# Altium schematic symbol library WE-CBF.SchLib: 156 symbols (part 1 of 3)
Pins are listed as number, name and electrical type; pins without a type are passive.

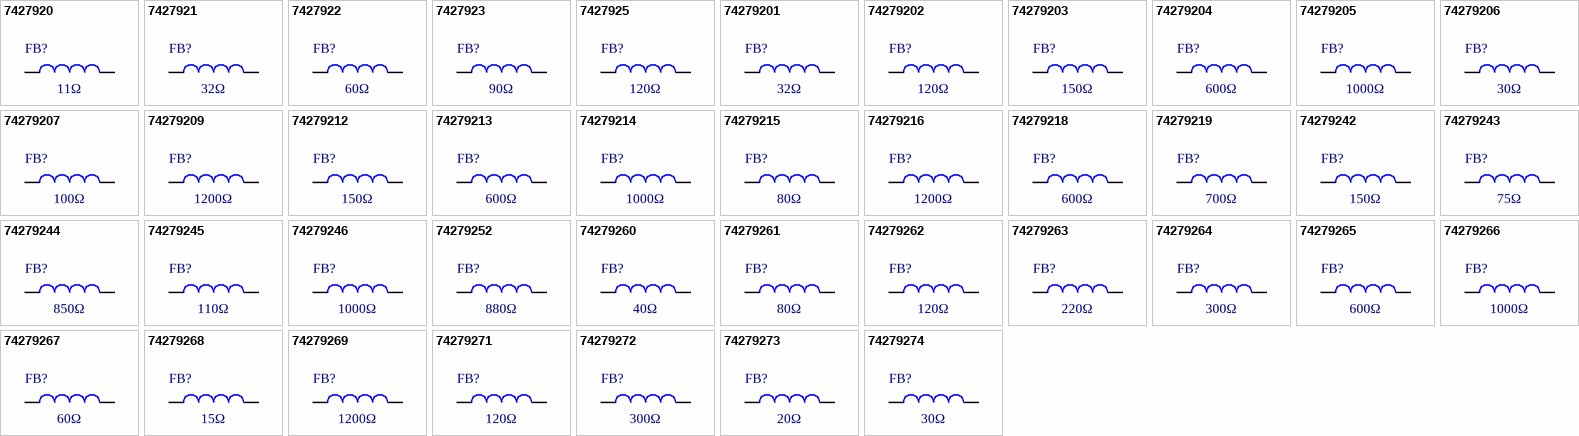
[diagram p0: symbols 7427920 to 74279274]

## 7427920
designator FB?, comment 11Ω
WE-CBF SMT EMI Suppression Ferrite Bead, size 0805, 11Ω, 9.6A; Manufacturer Part Number: 7427920; Manufacturer: Wurth Elektronik; Case/Size Code: 0805; DC Resistance Max: 0.15Ω; Impedance Max: 24Ω; Impedance Max Test Condition: 1000MHz; Type: High Speed; Category: Ferrites for PCB Assembly; Match Code: WE-CBF; ComponentLink1Description: Website Link; ComponentLink1URL: https://www.we-online.com/redexpert/article/7427920?ad; ComponentLink2Description: Datasheet Link; ComponentLink2URL: https://www.we-online.com/redexpert/spec/7427920?ad; Mount: Surface Mount; Min Operating Temperature: -55°C; Max Operating Temperature: 125°C; Packaging: Tape and Reel; Length: 2mm; Width: 1.2mm; Height: 0.9mm; Impedance @100MHz: 11Ω; Rated Current: 9.6A
footprint WE-CBF_0805_L2W1.2H0.9_HS_WB
simulation model 0805_7427920_11ohm
pins: 1, 2

## 7427921
designator FB?, comment 32Ω
WE-CBF SMT EMI Suppression Ferrite Bead, size 1206, 32Ω, 8.1A; Manufacturer Part Number: 7427921; Manufacturer: Wurth Elektronik; Case/Size Code: 1206; DC Resistance Max: 0.2Ω; Impedance Max: 70Ω; Impedance Max Test Condition: 1000MHz; Type: High Speed; Category: Ferrites for PCB Assembly; Match Code: WE-CBF; ComponentLink1Description: Website Link; ComponentLink1URL: https://www.we-online.com/redexpert/article/7427921?ad; ComponentLink2Description: Datasheet Link; ComponentLink2URL: https://www.we-online.com/redexpert/spec/7427921?ad; Mount: Surface Mount; Min Operating Temperature: -55°C; Max Operating Temperature: 125°C; Packaging: Tape and Reel; Length: 3.2mm; Width: 1.6mm; Height: 1.1mm; Impedance @100MHz: 32Ω; Rated Current: 8.1A
footprint WE-CBF_1206_L3.2W1.6H1.1_HS_WB
simulation model 1206_7427921_32ohm
pins: 1, 2

## 7427922
designator FB?, comment 60Ω
WE-CBF SMT EMI Suppression Ferrite Bead, size 1206, 60Ω, 5A; Manufacturer Part Number: 7427922; Manufacturer: Wurth Elektronik; Case/Size Code: 1206; DC Resistance Max: 0.2Ω; Impedance Max: 120Ω; Impedance Max Test Condition: 1000MHz; Type: High Speed; Category: Ferrites for PCB Assembly; Match Code: WE-CBF; ComponentLink1Description: Website Link; ComponentLink1URL: https://www.we-online.com/redexpert/article/7427922?ad; ComponentLink2Description: Datasheet Link; ComponentLink2URL: https://www.we-online.com/redexpert/spec/7427922?ad; Mount: Surface Mount; Min Operating Temperature: -55°C; Max Operating Temperature: 125°C; Packaging: Tape and Reel; Length: 3.2mm; Width: 1.6mm; Height: 1.1mm; Impedance @100MHz: 60Ω; Rated Current: 5A
footprint WE-CBF_1206_L3.2W1.6H1.1_HS_WB
simulation model 1206_7427922_60ohm
pins: 1, 2

## 7427923
designator FB?, comment 90Ω
WE-CBF SMT EMI Suppression Ferrite Bead, size 1210, 90Ω, 3.4A; Manufacturer Part Number: 7427923; Manufacturer: Wurth Elektronik; Case/Size Code: 1210; DC Resistance Max: 0.3Ω; Impedance Max: 180Ω; Impedance Max Test Condition: 1000MHz; Type: High Speed; Category: Ferrites for PCB Assembly; Match Code: WE-CBF; ComponentLink1Description: Website Link; ComponentLink1URL: https://www.we-online.com/redexpert/article/7427923?ad; ComponentLink2Description: Datasheet Link; ComponentLink2URL: https://www.we-online.com/redexpert/spec/7427923?ad; Mount: Surface Mount; Min Operating Temperature: -55°C; Max Operating Temperature: 125°C; Packaging: Tape and Reel; Length: 3.2mm; Width: 2.5mm; Height: 1.3mm; Impedance @100MHz: 90Ω; Rated Current: 3.4A
footprint WE-CBF_1210_L3.2W2.5H1.3_HS_WB
simulation model 1210_7427923_90ohm
pins: 1, 2

## 7427925
designator FB?, comment 120Ω
WE-CBF SMT EMI Suppression Ferrite Bead, size 1812, 120Ω, 6.8A; Manufacturer Part Number: 7427925; Manufacturer: Wurth Elektronik; Case/Size Code: 1812; DC Resistance Max: 0.3Ω; Impedance Max: 200Ω; Impedance Max Test Condition: 800MHz; Type: High Speed; Category: Ferrites for PCB Assembly; Match Code: WE-CBF; ComponentLink1Description: Website Link; ComponentLink1URL: https://www.we-online.com/redexpert/article/7427925?ad; ComponentLink2Description: Datasheet Link; ComponentLink2URL: https://www.we-online.com/redexpert/spec/7427925?ad; Mount: Surface Mount; Min Operating Temperature: -55°C; Max Operating Temperature: 125°C; Packaging: Tape and Reel; Length: 4.5mm; Width: 3.2mm; Height: 1.5mm; Impedance @100MHz: 120Ω; Rated Current: 6.8A
footprint WE-CBF_1812_L4.5W3.2H1.5_HS_WB
simulation model 1812_7427925_120ohm
pins: 1, 2

## 74279201
designator FB?, comment 32Ω
WE-CBF SMT EMI Suppression Ferrite Bead, size 0805, 32Ω, 2.8A; Manufacturer Part Number: 74279201; Manufacturer: Wurth Elektronik; Case/Size Code: 0805; DC Resistance Max: 0.15Ω; Impedance Max: 70Ω; Impedance Max Test Condition: 1000MHz; Type: High Speed; Category: Ferrites for PCB Assembly; Match Code: WE-CBF; ComponentLink1Description: Website Link; ComponentLink1URL: https://www.we-online.com/redexpert/article/74279201?ad; ComponentLink2Description: Datasheet Link; ComponentLink2URL: https://www.we-online.com/redexpert/spec/74279201?ad; Mount: Surface Mount; Min Operating Temperature: -55°C; Max Operating Temperature: 125°C; Packaging: Tape and Reel; Length: 2mm; Width: 1.2mm; Height: 0.9mm; Impedance @100MHz: 32Ω; Rated Current: 2.8A
footprint WE-CBF_0805_L2W1.2H0.9_HS_WB
simulation model 0805_74279201_32ohm
pins: 1, 2

## 74279202
designator FB?, comment 120Ω
WE-CBF SMT EMI Suppression Ferrite Bead, size 0805, 120Ω, 3.4A; Manufacturer Part Number: 74279202; Manufacturer: Wurth Elektronik; Case/Size Code: 0805; DC Resistance Max: 0.1Ω; Impedance Max: 200Ω; Impedance Max Test Condition: 400MHz; Type: High Speed; Category: Ferrites for PCB Assembly; Match Code: WE-CBF; ComponentLink1Description: Website Link; ComponentLink1URL: https://www.we-online.com/redexpert/article/74279202?ad; ComponentLink2Description: Datasheet Link; ComponentLink2URL: https://www.we-online.com/redexpert/spec/74279202?ad; Mount: Surface Mount; Min Operating Temperature: -55°C; Max Operating Temperature: 125°C; Packaging: Tape and Reel; Length: 2mm; Width: 1.2mm; Height: 0.9mm; Impedance @100MHz: 120Ω; Rated Current: 3.4A
footprint WE-CBF_0805_L2W1.2H0.9_HS_WB
simulation model 0805_74279202_120ohm
pins: 1, 2

## 74279203
designator FB?, comment 150Ω
WE-CBF SMT EMI Suppression Ferrite Bead, size 0805, 150Ω, 2.4A; Manufacturer Part Number: 74279203; Manufacturer: Wurth Elektronik; Case/Size Code: 0805; DC Resistance Max: 0.25Ω; Impedance Max: 250Ω; Impedance Max Test Condition: 400MHz; Type: High Speed; Category: Ferrites for PCB Assembly; Match Code: WE-CBF; ComponentLink1Description: Website Link; ComponentLink1URL: https://www.we-online.com/redexpert/article/74279203?ad; ComponentLink2Description: Datasheet Link; ComponentLink2URL: https://www.we-online.com/redexpert/spec/74279203?ad; Mount: Surface Mount; Min Operating Temperature: -55°C; Max Operating Temperature: 125°C; Packaging: Tape and Reel; Length: 2mm; Width: 1.2mm; Height: 0.9mm; Impedance @100MHz: 150Ω; Rated Current: 2.4A
footprint WE-CBF_0805_L2W1.2H0.9_HS_WB
simulation model 0805_74279203_150ohm
pins: 1, 2

## 74279204
designator FB?, comment 600Ω
WE-CBF SMT EMI Suppression Ferrite Bead, size 0805, 600Ω, 1.5A; Manufacturer Part Number: 74279204; Manufacturer: Wurth Elektronik; Case/Size Code: 0805; DC Resistance Max: 0.35Ω; Impedance Max: 700Ω; Impedance Max Test Condition: 150MHz; Type: Wide Band; Category: Ferrites for PCB Assembly; Match Code: WE-CBF; ComponentLink1Description: Website Link; ComponentLink1URL: https://www.we-online.com/redexpert/article/74279204?ad; ComponentLink2Description: Datasheet Link; ComponentLink2URL: https://www.we-online.com/redexpert/spec/74279204?ad; Mount: Surface Mount; Min Operating Temperature: -55°C; Max Operating Temperature: 125°C; Packaging: Tape and Reel; Length: 2mm; Width: 1.2mm; Height: 0.9mm; Impedance @100MHz: 600Ω; Rated Current: 1.5A
footprint WE-CBF_0805_L2W1.2H0.9_HS_WB
simulation model 0805_74279204_600ohm
pins: 1, 2

## 74279205
designator FB?, comment 1000Ω
WE-CBF SMT EMI Suppression Ferrite Bead, size 0805, 1000Ω, 0.9A; Manufacturer Part Number: 74279205; Manufacturer: Wurth Elektronik; Case/Size Code: 0805; DC Resistance Max: 0.45Ω; Impedance Max: 1050Ω; Impedance Max Test Condition: 150MHz; Type: Wide Band; Category: Ferrites for PCB Assembly; Match Code: WE-CBF; ComponentLink1Description: Website Link; ComponentLink1URL: https://www.we-online.com/redexpert/article/74279205?ad; ComponentLink2Description: Datasheet Link; ComponentLink2URL: https://www.we-online.com/redexpert/spec/74279205?ad; Mount: Surface Mount; Min Operating Temperature: -55°C; Max Operating Temperature: 125°C; Packaging: Tape and Reel; Length: 2mm; Width: 1.2mm; Height: 0.9mm; Impedance @100MHz: 1000Ω; Rated Current: 0.9A
footprint WE-CBF_0805_L2W1.2H0.9_HS_WB
simulation model 0805_74279205_1000ohm
pins: 1, 2

## 74279206
designator FB?, comment 30Ω
WE-CBF SMT EMI Suppression Ferrite Bead, size 0805, 30Ω, 3A; Manufacturer Part Number: 74279206; Manufacturer: Wurth Elektronik; Case/Size Code: 0805; DC Resistance Max: 0.025Ω; Impedance Max: 55Ω; Impedance Max Test Condition: 1000MHz; Type: High Current; Category: Ferrites for PCB Assembly; Match Code: WE-CBF; ComponentLink1Description: Website Link; ComponentLink1URL: https://www.we-online.com/redexpert/article/74279206?ad; ComponentLink2Description: Datasheet Link; ComponentLink2URL: https://www.we-online.com/redexpert/spec/74279206?ad; Mount: Surface Mount; Min Operating Temperature: -55°C; Max Operating Temperature: 125°C; Packaging: Tape and Reel; Length: 2mm; Width: 1.2mm; Height: 0.9mm; Impedance @100MHz: 30Ω; Rated Current: 3A
footprint WE-CBF_0805_L2W1.2H0.9_HC
simulation model 0805_74279206_30ohm
pins: 1, 2

## 74279207
designator FB?, comment 100Ω
WE-CBF SMT EMI Suppression Ferrite Bead, size 0805, 100Ω, 1A; Manufacturer Part Number: 74279207; Manufacturer: Wurth Elektronik; Case/Size Code: 0805; DC Resistance Max: 0.15Ω; Impedance Max: 140Ω; Impedance Max Test Condition: 400MHz; Type: High Current; Category: Ferrites for PCB Assembly; Match Code: WE-CBF; ComponentLink1Description: Website Link; ComponentLink1URL: https://www.we-online.com/redexpert/article/74279207?ad; ComponentLink2Description: Datasheet Link; ComponentLink2URL: https://www.we-online.com/redexpert/spec/74279207?ad; Mount: Surface Mount; Min Operating Temperature: -55°C; Max Operating Temperature: 125°C; Packaging: Tape and Reel; Length: 2mm; Width: 1.2mm; Height: 0.9mm; Impedance @100MHz: 100Ω; Rated Current: 1A
footprint WE-CBF_0805_L2W1.2H0.9_HC
simulation model 0805_74279207_100ohm
pins: 1, 2

## 74279209
designator FB?, comment 1200Ω
WE-CBF SMT EMI Suppression Ferrite Bead, size 0805, 1200Ω, 1.2A; Manufacturer Part Number: 74279209; Manufacturer: Wurth Elektronik; Case/Size Code: 0805; DC Resistance Max: 0.55Ω; Impedance Max: 1400Ω; Impedance Max Test Condition: 150MHz; Type: Wide Band; Category: Ferrites for PCB Assembly; Match Code: WE-CBF; ComponentLink1Description: Website Link; ComponentLink1URL: https://www.we-online.com/redexpert/article/74279209?ad; ComponentLink2Description: Datasheet Link; ComponentLink2URL: https://www.we-online.com/redexpert/spec/74279209?ad; Mount: Surface Mount; Min Operating Temperature: -55°C; Max Operating Temperature: 125°C; Packaging: Tape and Reel; Length: 2mm; Width: 1.2mm; Height: 0.9mm; Impedance @100MHz: 1200Ω; Rated Current: 1.2A
footprint WE-CBF_0805_L2W1.2H0.9_HS_WB
simulation model 0805_74279209_1200ohm
pins: 1, 2

## 74279212
designator FB?, comment 150Ω
WE-CBF SMT EMI Suppression Ferrite Bead, size 1206, 150Ω, 2.5A; Manufacturer Part Number: 74279212; Manufacturer: Wurth Elektronik; Case/Size Code: 1206; DC Resistance Max: 0.3Ω; Impedance Max: 210Ω; Impedance Max Test Condition: 280MHz; Type: High Speed; Category: Ferrites for PCB Assembly; Match Code: WE-CBF; ComponentLink1Description: Website Link; ComponentLink1URL: https://www.we-online.com/redexpert/article/74279212?ad; ComponentLink2Description: Datasheet Link; ComponentLink2URL: https://www.we-online.com/redexpert/spec/74279212?ad; Mount: Surface Mount; Min Operating Temperature: -55°C; Max Operating Temperature: 125°C; Packaging: Tape and Reel; Length: 3.2mm; Width: 1.6mm; Height: 1.1mm; Impedance @100MHz: 150Ω; Rated Current: 2.5A
footprint WE-CBF_1206_L3.2W1.6H1.1_HS_WB
pins: 1, 2

## 74279213
designator FB?, comment 600Ω
WE-CBF SMT EMI Suppression Ferrite Bead, size 1206, 600Ω, 2.5A; Manufacturer Part Number: 74279213; Manufacturer: Wurth Elektronik; Case/Size Code: 1206; DC Resistance Max: 0.3Ω; Impedance Max Test Condition: 100MHz; Type: Wide Band; Category: Ferrites for PCB Assembly; Match Code: WE-CBF; ComponentLink1Description: Website Link; ComponentLink1URL: https://www.we-online.com/redexpert/article/74279213?ad; ComponentLink2Description: Datasheet Link; ComponentLink2URL: https://www.we-online.com/redexpert/spec/74279213?ad; Mount: Surface Mount; Min Operating Temperature: -55°C; Max Operating Temperature: 125°C; Packaging: Tape and Reel; Length: 3.2mm; Width: 1.6mm; Height: 1.1mm; Impedance @100MHz: 600Ω; Impedance Max: 600Ω; Rated Current: 2.5A
footprint WE-CBF_1206_L3.2W1.6H1.1_HS_WB
simulation model 1206_74279213_600ohm
pins: 1, 2

## 74279214
designator FB?, comment 1000Ω
WE-CBF SMT EMI Suppression Ferrite Bead, size 1206, 1000Ω, 1.3A; Manufacturer Part Number: 74279214; Manufacturer: Wurth Elektronik; Case/Size Code: 1206; DC Resistance Max: 0.45Ω; Impedance Max: 1250Ω; Impedance Max Test Condition: 75MHz; Type: Wide Band; Category: Ferrites for PCB Assembly; Match Code: WE-CBF; ComponentLink1Description: Website Link; ComponentLink1URL: https://www.we-online.com/redexpert/article/74279214?ad; ComponentLink2Description: Datasheet Link; ComponentLink2URL: https://www.we-online.com/redexpert/spec/74279214?ad; Mount: Surface Mount; Min Operating Temperature: -55°C; Max Operating Temperature: 125°C; Packaging: Tape and Reel; Length: 3.2mm; Width: 1.6mm; Height: 1.1mm; Impedance @100MHz: 1000Ω; Rated Current: 1.3A
footprint WE-CBF_1206_L3.2W1.6H1.1_HS_WB
simulation model 1206_74279214_1000ohm
pins: 1, 2

## 74279215
designator FB?, comment 80Ω
WE-CBF SMT EMI Suppression Ferrite Bead, size 1206, 80Ω, 3A; Manufacturer Part Number: 74279215; Manufacturer: Wurth Elektronik; Case/Size Code: 1206; DC Resistance Max: 0.03Ω; Impedance Max: 110Ω; Impedance Max Test Condition: 2000MHz; Type: High Current; Category: Ferrites for PCB Assembly; Match Code: WE-CBF; ComponentLink1Description: Website Link; ComponentLink1URL: https://www.we-online.com/redexpert/article/74279215?ad; ComponentLink2Description: Datasheet Link; ComponentLink2URL: https://www.we-online.com/redexpert/spec/74279215?ad; Mount: Surface Mount; Min Operating Temperature: -55°C; Max Operating Temperature: 125°C; Packaging: Tape and Reel; Length: 3.2mm; Width: 1.6mm; Height: 1.1mm; Impedance @100MHz: 80Ω; Rated Current: 3A
footprint WE-CBF_1206_L3.2W1.6H1.1_HC
simulation model 1206_74279215_80ohm
pins: 1, 2

## 74279216
designator FB?, comment 1200Ω
WE-CBF SMT EMI Suppression Ferrite Bead, size 1206, 1200Ω, 1.3A; Manufacturer Part Number: 74279216; Manufacturer: Wurth Elektronik; Case/Size Code: 1206; DC Resistance Max: 0.5Ω; Impedance Max: 1400Ω; Impedance Max Test Condition: 70MHz; Type: Wide Band; Category: Ferrites for PCB Assembly; Match Code: WE-CBF; ComponentLink1Description: Website Link; ComponentLink1URL: https://www.we-online.com/redexpert/article/74279216?ad; ComponentLink2Description: Datasheet Link; ComponentLink2URL: https://www.we-online.com/redexpert/spec/74279216?ad; Mount: Surface Mount; Min Operating Temperature: -55°C; Max Operating Temperature: 125°C; Packaging: Tape and Reel; Length: 3.2mm; Width: 1.6mm; Height: 1.1mm; Impedance @100MHz: 1200Ω; Rated Current: 1.3A
footprint WE-CBF_1206_L3.2W1.6H1.1_HS_WB
simulation model 1206_74279216_1200ohm
pins: 1, 2

## 74279218
designator FB?, comment 600Ω
WE-CBF SMT EMI Suppression Ferrite Bead, size 1206, 600Ω, 2A; Manufacturer Part Number: 74279218; Manufacturer: Wurth Elektronik; Case/Size Code: 1206; DC Resistance Max: 0.1Ω; Impedance Max: 700Ω; Impedance Max Test Condition: 90MHz; Type: High Current; Category: Ferrites for PCB Assembly; Match Code: WE-CBF; ComponentLink1Description: Website Link; ComponentLink1URL: https://www.we-online.com/redexpert/article/74279218?ad; ComponentLink2Description: Datasheet Link; ComponentLink2URL: https://www.we-online.com/redexpert/spec/74279218?ad; Mount: Surface Mount; Min Operating Temperature: -55°C; Max Operating Temperature: 125°C; Packaging: Tape and Reel; Length: 3.2mm; Width: 1.6mm; Height: 1.1mm; Impedance @100MHz: 600Ω; Rated Current: 2A
footprint WE-CBF_1206_L3.2W1.6H1.1_HC
simulation model 1206_74279218_600ohm
pins: 1, 2

## 74279219
designator FB?, comment 700Ω
WE-CBF SMT EMI Suppression Ferrite Bead, size 1206, 700Ω, 0.45A; Manufacturer Part Number: 74279219; Manufacturer: Wurth Elektronik; Case/Size Code: 1206; DC Resistance Max: 0.65Ω; Impedance Max: 2000Ω; Impedance Max Test Condition: 30MHz; Type: Wide Band; Category: Ferrites for PCB Assembly; Match Code: WE-CBF; ComponentLink1Description: Website Link; ComponentLink1URL: https://www.we-online.com/redexpert/article/74279219?ad; ComponentLink2Description: Datasheet Link; ComponentLink2URL: https://www.we-online.com/redexpert/spec/74279219?ad; Mount: Surface Mount; Min Operating Temperature: -55°C; Max Operating Temperature: 125°C; Packaging: Tape and Reel; Length: 3.2mm; Width: 1.6mm; Height: 1.1mm; Impedance @100MHz: 700Ω; Rated Current: 0.45A
footprint WE-CBF_1206_L3.2W1.6H1.1_HS_WB
simulation model 1206_74279219_700ohm
pins: 1, 2

## 74279242
designator FB?, comment 150Ω
WE-CBF SMT EMI Suppression Ferrite Bead, size 1806, 150Ω, 2A; Manufacturer Part Number: 74279242; Manufacturer: Wurth Elektronik; Case/Size Code: 1806; DC Resistance Max: 0.5Ω; Impedance Max: 280Ω; Impedance Max Test Condition: 500MHz; Type: Wide Band; Category: Ferrites for PCB Assembly; Match Code: WE-CBF; ComponentLink1Description: Website Link; ComponentLink1URL: https://www.we-online.com/redexpert/article/74279242?ad; ComponentLink2Description: Datasheet Link; ComponentLink2URL: https://www.we-online.com/redexpert/spec/74279242?ad; Mount: Surface Mount; Min Operating Temperature: -55°C; Max Operating Temperature: 125°C; Packaging: Tape and Reel; Length: 4.5mm; Width: 1.6mm; Height: 1.6mm; Impedance @100MHz: 150Ω; Rated Current: 2A
footprint WE-CBF_1806_L4.5W1.6H1.6_HS_WB
simulation model 1806_74279242_150ohm
pins: 1, 2

## 74279243
designator FB?, comment 75Ω
WE-CBF SMT EMI Suppression Ferrite Bead, size 1806, 75Ω, 3A; Manufacturer Part Number: 74279243; Manufacturer: Wurth Elektronik; Case/Size Code: 1806; DC Resistance Max: 0.025Ω; Impedance Max: 160Ω; Impedance Max Test Condition: 1000MHz; Type: High Current; Category: Ferrites for PCB Assembly; Match Code: WE-CBF; ComponentLink1Description: Website Link; ComponentLink1URL: https://www.we-online.com/redexpert/article/74279243?ad; ComponentLink2Description: Datasheet Link; ComponentLink2URL: https://www.we-online.com/redexpert/spec/74279243?ad; Mount: Surface Mount; Min Operating Temperature: -55°C; Max Operating Temperature: 125°C; Packaging: Tape and Reel; Length: 4.5mm; Width: 1.6mm; Height: 1.6mm; Impedance @100MHz: 75Ω; Rated Current: 3A
footprint WE-CBF_1806_L4.5W1.6H1.6_HC
simulation model 1806_74279243_75ohm
pins: 1, 2

## 74279244
designator FB?, comment 850Ω
WE-CBF SMT EMI Suppression Ferrite Bead, size 1806, 850Ω, 1.5A; Manufacturer Part Number: 74279244; Manufacturer: Wurth Elektronik; Case/Size Code: 1806; DC Resistance Max: 0.1Ω; Impedance Max: 1250Ω; Impedance Max Test Condition: 50MHz; Type: High Current; Category: Ferrites for PCB Assembly; Match Code: WE-CBF; ComponentLink1Description: Website Link; ComponentLink1URL: https://www.we-online.com/redexpert/article/74279244?ad; ComponentLink2Description: Datasheet Link; ComponentLink2URL: https://www.we-online.com/redexpert/spec/74279244?ad; Mount: Surface Mount; Min Operating Temperature: -55°C; Max Operating Temperature: 125°C; Packaging: Tape and Reel; Length: 4.5mm; Width: 1.6mm; Height: 1.6mm; Impedance @100MHz: 850Ω; Rated Current: 1.5A
footprint WE-CBF_1806_L4.5W1.6H1.6_HC
simulation model 1806_74279244_850ohm
pins: 1, 2

## 74279245
designator FB?, comment 110Ω
WE-CBF SMT EMI Suppression Ferrite Bead, size 1806, 110Ω, 4A; Manufacturer Part Number: 74279245; Manufacturer: Wurth Elektronik; Case/Size Code: 1806; DC Resistance Max: 0.035Ω; Impedance Max: 170Ω; Impedance Max Test Condition: 600MHz; Type: High Current; Category: Ferrites for PCB Assembly; Match Code: WE-CBF; ComponentLink1Description: Website Link; ComponentLink1URL: https://www.we-online.com/redexpert/article/74279245?ad; ComponentLink2Description: Datasheet Link; ComponentLink2URL: https://www.we-online.com/redexpert/spec/74279245?ad; Mount: Surface Mount; Min Operating Temperature: -55°C; Max Operating Temperature: 125°C; Packaging: Tape and Reel; Length: 4.5mm; Width: 1.6mm; Height: 1.6mm; Impedance @100MHz: 110Ω; Rated Current: 4A
footprint WE-CBF_1806_L4.5W1.6H1.6_HC
simulation model 1806_74279245_110ohm
pins: 1, 2

## 74279246
designator FB?, comment 1000Ω
WE-CBF SMT EMI Suppression Ferrite Bead, size 1806, 1000Ω, 1.5A; Manufacturer Part Number: 74279246; Manufacturer: Wurth Elektronik; Case/Size Code: 1806; DC Resistance Max: 0.09Ω; Impedance Max: 1045Ω; Impedance Max Test Condition: 85MHz; Type: Wide Band; Category: Ferrites for PCB Assembly; Match Code: WE-CBF; ComponentLink1Description: Website Link; ComponentLink1URL: https://www.we-online.com/redexpert/article/74279246?ad; ComponentLink2Description: Datasheet Link; ComponentLink2URL: https://www.we-online.com/redexpert/spec/74279246?ad; Mount: Surface Mount; Min Operating Temperature: -55°C; Max Operating Temperature: 125°C; Packaging: Tape and Reel; Length: 4.5mm; Width: 1.6mm; Height: 1.6mm; Impedance @100MHz: 1000Ω; Rated Current: 1.5A
footprint WE-CBF_1806_L4.5W1.6H1.6_HS_WB
simulation model 1806_74279246_1000ohm
pins: 1, 2

## 74279252
designator FB?, comment 880Ω
WE-CBF SMT EMI Suppression Ferrite Bead, size 1812, 880Ω, 4A; Manufacturer Part Number: 74279252; Manufacturer: Wurth Elektronik; Case/Size Code: 1812; DC Resistance Max: 0.035Ω; Impedance Max: 940Ω; Impedance Max Test Condition: 108MHz; Type: High Current; Category: Ferrites for PCB Assembly; Match Code: WE-CBF; ComponentLink1Description: Website Link; ComponentLink1URL: https://www.we-online.com/redexpert/article/74279252?ad; ComponentLink2Description: Datasheet Link; ComponentLink2URL: https://www.we-online.com/redexpert/spec/74279252?ad; Mount: Surface Mount; Min Operating Temperature: -55°C; Max Operating Temperature: 125°C; Packaging: Tape and Reel; Length: 4.5mm; Width: 3.2mm; Height: 1.5mm; Impedance @100MHz: 880Ω; Rated Current: 4A
footprint WE-CBF_1812_L4.5W3.2H1.5_HC
simulation model 1812_74279252_880ohm
pins: 1, 2

## 74279260
designator FB?, comment 40Ω
WE-CBF SMT EMI Suppression Ferrite Bead, size 0603, 40Ω, 2.2A; Manufacturer Part Number: 74279260; Manufacturer: Wurth Elektronik; Case/Size Code: 0603; DC Resistance Max: 0.15Ω; Impedance Max: 60Ω; Impedance Max Test Condition: 1000MHz; Type: High Speed; Category: Ferrites for PCB Assembly; Match Code: WE-CBF; ComponentLink1Description: Website Link; ComponentLink1URL: https://www.we-online.com/redexpert/article/74279260?ad; ComponentLink2Description: Datasheet Link; ComponentLink2URL: https://www.we-online.com/redexpert/spec/74279260?ad; Mount: Surface Mount; Min Operating Temperature: -55°C; Max Operating Temperature: 125°C; Packaging: Tape and Reel; Length: 1.6mm; Width: 0.8mm; Height: 0.8mm; Impedance @100MHz: 40Ω; Rated Current: 2.2A
footprint WE-CBF_0603_L1.6W0.8H0.8_HS_WB
simulation model 0603_74279260_40ohm
pins: 1, 2

## 74279261
designator FB?, comment 80Ω
WE-CBF SMT EMI Suppression Ferrite Bead, size 0603, 80Ω, 1A; Manufacturer Part Number: 74279261; Manufacturer: Wurth Elektronik; Case/Size Code: 0603; DC Resistance Max: 0.3Ω; Impedance Max: 350Ω; Impedance Max Test Condition: 650MHz; Type: High Speed; Category: Ferrites for PCB Assembly; Match Code: WE-CBF; ComponentLink1Description: Website Link; ComponentLink1URL: https://www.we-online.com/redexpert/article/74279261?ad; ComponentLink2Description: Datasheet Link; ComponentLink2URL: https://www.we-online.com/redexpert/spec/74279261?ad; Mount: Surface Mount; Min Operating Temperature: -55°C; Max Operating Temperature: 125°C; Packaging: Tape and Reel; Length: 1.6mm; Width: 0.8mm; Height: 0.8mm; Impedance @100MHz: 80Ω; Rated Current: 1A
footprint WE-CBF_0603_L1.6W0.8H0.8_HS_WB
simulation model 0603_74279261_80ohm
pins: 1, 2

## 74279262
designator FB?, comment 120Ω
WE-CBF SMT EMI Suppression Ferrite Bead, size 0603, 120Ω, 1.35A; Manufacturer Part Number: 74279262; Manufacturer: Wurth Elektronik; Case/Size Code: 0603; DC Resistance Max: 0.3Ω; Impedance Max: 200Ω; Impedance Max Test Condition: 510MHz; Type: Wide Band; Category: Ferrites for PCB Assembly; Match Code: WE-CBF; ComponentLink1Description: Website Link; ComponentLink1URL: https://www.we-online.com/redexpert/article/74279262?ad; ComponentLink2Description: Datasheet Link; ComponentLink2URL: https://www.we-online.com/redexpert/spec/74279262?ad; Mount: Surface Mount; Min Operating Temperature: -55°C; Max Operating Temperature: 125°C; Packaging: Tape and Reel; Length: 1.6mm; Width: 0.8mm; Height: 0.8mm; Impedance @100MHz: 120Ω; Rated Current: 1.35A
footprint WE-CBF_0603_L1.6W0.8H0.8_HS_WB
simulation model 0603_74279262_120ohm
pins: 1, 2

## 74279263
designator FB?, comment 220Ω
WE-CBF SMT EMI Suppression Ferrite Bead, size 0603, 220Ω, 1A; Manufacturer Part Number: 74279263; Manufacturer: Wurth Elektronik; Case/Size Code: 0603; DC Resistance Max: 0.3Ω; Impedance Max: 280Ω; Impedance Max Test Condition: 350MHz; Type: Wide Band; Category: Ferrites for PCB Assembly; Match Code: WE-CBF; ComponentLink1Description: Website Link; ComponentLink1URL: https://www.we-online.com/redexpert/article/74279263?ad; ComponentLink2Description: Datasheet Link; ComponentLink2URL: https://www.we-online.com/redexpert/spec/74279263?ad; Mount: Surface Mount; Min Operating Temperature: -55°C; Max Operating Temperature: 125°C; Packaging: Tape and Reel; Length: 1.6mm; Width: 0.8mm; Height: 0.8mm; Impedance @100MHz: 220Ω; Rated Current: 1A
footprint WE-CBF_0603_L1.6W0.8H0.8_HS_WB
simulation model 0603_74279263_220ohm
pins: 1, 2

## 74279264
designator FB?, comment 300Ω
WE-CBF SMT EMI Suppression Ferrite Bead, size 0603, 300Ω, 1A; Manufacturer Part Number: 74279264; Manufacturer: Wurth Elektronik; Case/Size Code: 0603; DC Resistance Max: 0.35Ω; Impedance Max: 500Ω; Impedance Max Test Condition: 320MHz; Type: High Speed; Category: Ferrites for PCB Assembly; Match Code: WE-CBF; ComponentLink1Description: Website Link; ComponentLink1URL: https://www.we-online.com/redexpert/article/74279264?ad; ComponentLink2Description: Datasheet Link; ComponentLink2URL: https://www.we-online.com/redexpert/spec/74279264?ad; Mount: Surface Mount; Min Operating Temperature: -55°C; Max Operating Temperature: 125°C; Packaging: Tape and Reel; Length: 1.6mm; Width: 0.8mm; Height: 0.8mm; Impedance @100MHz: 300Ω; Rated Current: 1A
footprint WE-CBF_0603_L1.6W0.8H0.8_HS_WB
simulation model 0603_74279264_300ohm
pins: 1, 2

## 74279265
designator FB?, comment 600Ω
WE-CBF SMT EMI Suppression Ferrite Bead, size 0603, 600Ω, 0.85A; Manufacturer Part Number: 74279265; Manufacturer: Wurth Elektronik; Case/Size Code: 0603; DC Resistance Max: 0.45Ω; Impedance Max: 720Ω; Impedance Max Test Condition: 200MHz; Type: Wide Band; Category: Ferrites for PCB Assembly; Match Code: WE-CBF; ComponentLink1Description: Website Link; ComponentLink1URL: https://www.we-online.com/redexpert/article/74279265?ad; ComponentLink2Description: Datasheet Link; ComponentLink2URL: https://www.we-online.com/redexpert/spec/74279265?ad; Mount: Surface Mount; Min Operating Temperature: -55°C; Max Operating Temperature: 125°C; Packaging: Tape and Reel; Length: 1.6mm; Width: 0.8mm; Height: 0.8mm; Impedance @100MHz: 600Ω; Rated Current: 0.85A
footprint WE-CBF_0603_L1.6W0.8H0.8_HS_WB
simulation model 0603_74279265_600ohm
pins: 1, 2

## 74279266
designator FB?, comment 1000Ω
WE-CBF SMT EMI Suppression Ferrite Bead, size 0603, 1000Ω, 0.65A; Manufacturer Part Number: 74279266; Manufacturer: Wurth Elektronik; Case/Size Code: 0603; DC Resistance Max: 0.6Ω; Impedance Max: 1350Ω; Impedance Max Test Condition: 140MHz; Type: Wide Band; Category: Ferrites for PCB Assembly; Match Code: WE-CBF; ComponentLink1Description: Website Link; ComponentLink1URL: https://www.we-online.com/redexpert/article/74279266?ad; ComponentLink2Description: Datasheet Link; ComponentLink2URL: https://www.we-online.com/redexpert/spec/74279266?ad; Mount: Surface Mount; Min Operating Temperature: -55°C; Max Operating Temperature: 125°C; Packaging: Tape and Reel; Length: 1.6mm; Width: 0.8mm; Height: 0.8mm; Impedance @100MHz: 1000Ω; Rated Current: 0.65A
footprint WE-CBF_0603_L1.6W0.8H0.8_HS_WB
simulation model 0603_74279266_1000ohm
pins: 1, 2

## 74279267
designator FB?, comment 60Ω
WE-CBF SMT EMI Suppression Ferrite Bead, size 0603, 60Ω, 2A; Manufacturer Part Number: 74279267; Manufacturer: Wurth Elektronik; Case/Size Code: 0603; DC Resistance Max: 0.3Ω; Impedance Max: 110Ω; Impedance Max Test Condition: 650MHz; Type: High Speed; Category: Ferrites for PCB Assembly; Match Code: WE-CBF; ComponentLink1Description: Website Link; ComponentLink1URL: https://www.we-online.com/redexpert/article/74279267?ad; ComponentLink2Description: Datasheet Link; ComponentLink2URL: https://www.we-online.com/redexpert/spec/74279267?ad; Mount: Surface Mount; Min Operating Temperature: -55°C; Max Operating Temperature: 125°C; Packaging: Tape and Reel; Length: 1.6mm; Width: 0.8mm; Height: 0.8mm; Impedance @100MHz: 60Ω; Rated Current: 2A
footprint WE-CBF_0603_L1.6W0.8H0.8_HS_WB
simulation model 0603_74279267_60ohm
pins: 1, 2

## 74279268
designator FB?, comment 15Ω
WE-CBF SMT EMI Suppression Ferrite Bead, size 0603, 15Ω, 1.9A; Manufacturer Part Number: 74279268; Manufacturer: Wurth Elektronik; Case/Size Code: 0603; DC Resistance Max: 0.1Ω; Impedance Max: 60Ω; Impedance Max Test Condition: 1000MHz; Type: High Speed; Category: Ferrites for PCB Assembly; Match Code: WE-CBF; ComponentLink1Description: Website Link; ComponentLink1URL: https://www.we-online.com/redexpert/article/74279268?ad; ComponentLink2Description: Datasheet Link; ComponentLink2URL: https://www.we-online.com/redexpert/spec/74279268?ad; Mount: Surface Mount; Min Operating Temperature: -55°C; Max Operating Temperature: 125°C; Packaging: Tape and Reel; Length: 1.6mm; Width: 0.8mm; Height: 0.8mm; Impedance @100MHz: 15Ω; Rated Current: 1.9A
footprint WE-CBF_0603_L1.6W0.8H0.8_HS_WB
simulation model 0603_74279268_15ohm
pins: 1, 2

## 74279269
designator FB?, comment 1200Ω
WE-CBF SMT EMI Suppression Ferrite Bead, size 0603, 1200Ω, 0.65A; Manufacturer Part Number: 74279269; Manufacturer: Wurth Elektronik; Case/Size Code: 0603; DC Resistance Max: 0.7Ω; Impedance Max: 1500Ω; Impedance Max Test Condition: 150MHz; Type: Wide Band; Category: Ferrites for PCB Assembly; Match Code: WE-CBF; ComponentLink1Description: Website Link; ComponentLink1URL: https://www.we-online.com/redexpert/article/74279269?ad; ComponentLink2Description: Datasheet Link; ComponentLink2URL: https://www.we-online.com/redexpert/spec/74279269?ad; Mount: Surface Mount; Min Operating Temperature: -55°C; Max Operating Temperature: 125°C; Packaging: Tape and Reel; Length: 1.6mm; Width: 0.8mm; Height: 0.8mm; Impedance @100MHz: 1200Ω; Rated Current: 0.65A
footprint WE-CBF_0603_L1.6W0.8H0.8_HS_WB
simulation model 0603_74279269_1200ohm
pins: 1, 2

## 74279271
designator FB?, comment 120Ω
WE-CBF SMT EMI Suppression Ferrite Bead, size 0402, 120Ω, 1.1A; Manufacturer Part Number: 74279271; Manufacturer: Wurth Elektronik; Case/Size Code: 0402; DC Resistance Max: 0.2Ω; Impedance Max: 200Ω; Impedance Max Test Condition: 600MHz; Type: Wide Band; Category: Ferrites for PCB Assembly; Match Code: WE-CBF; ComponentLink1Description: Website Link; ComponentLink1URL: https://www.we-online.com/redexpert/article/74279271?ad; ComponentLink2Description: Datasheet Link; ComponentLink2URL: https://www.we-online.com/redexpert/spec/74279271?ad; Mount: Surface Mount; Min Operating Temperature: -55°C; Max Operating Temperature: 125°C; Packaging: Tape and Reel; Length: 1mm; Width: 0.5mm; Height: 0.5mm; Impedance @100MHz: 120Ω; Rated Current: 1.1A
footprint WE-CBF_0402_L1W0.5H0.5_HS_WB
simulation model 0402_74279271_120ohm
pins: 1, 2

## 74279272
designator FB?, comment 300Ω
WE-CBF SMT EMI Suppression Ferrite Bead, size 0402, 300Ω, 0.7A; Manufacturer Part Number: 74279272; Manufacturer: Wurth Elektronik; Case/Size Code: 0402; DC Resistance Max: 0.8Ω; Impedance Max: 400Ω; Impedance Max Test Condition: 380MHz; Type: Wide Band; Category: Ferrites for PCB Assembly; Match Code: WE-CBF; ComponentLink1Description: Website Link; ComponentLink1URL: https://www.we-online.com/redexpert/article/74279272?ad; ComponentLink2Description: Datasheet Link; ComponentLink2URL: https://www.we-online.com/redexpert/spec/74279272?ad; Mount: Surface Mount; Min Operating Temperature: -55°C; Max Operating Temperature: 125°C; Packaging: Tape and Reel; Length: 1mm; Width: 0.5mm; Height: 0.5mm; Impedance @100MHz: 300Ω; Rated Current: 0.7A
footprint WE-CBF_0402_L1W0.5H0.5_HS_WB
simulation model 0402_74279272_300ohm
pins: 1, 2

## 74279273
designator FB?, comment 20Ω
WE-CBF SMT EMI Suppression Ferrite Bead, size 0402, 20Ω, 2A; Manufacturer Part Number: 74279273; Manufacturer: Wurth Elektronik; Case/Size Code: 0402; DC Resistance Max: 0.2Ω; Impedance Max: 30Ω; Impedance Max Test Condition: 600MHz; Type: High Speed; Category: Ferrites for PCB Assembly; Match Code: WE-CBF; ComponentLink1Description: Website Link; ComponentLink1URL: https://www.we-online.com/redexpert/article/74279273?ad; ComponentLink2Description: Datasheet Link; ComponentLink2URL: https://www.we-online.com/redexpert/spec/74279273?ad; Mount: Surface Mount; Min Operating Temperature: -55°C; Max Operating Temperature: 125°C; Packaging: Tape and Reel; Length: 1mm; Width: 0.5mm; Height: 0.5mm; Impedance @100MHz: 20Ω; Rated Current: 2A
footprint WE-CBF_0402_L1W0.5H0.5_HS_WB
simulation model 0402_74279273_20ohm
pins: 1, 2

## 74279274
designator FB?, comment 30Ω
WE-CBF SMT EMI Suppression Ferrite Bead, size 0402, 30Ω, 1.6A; Manufacturer Part Number: 74279274; Manufacturer: Wurth Elektronik; Case/Size Code: 0402; DC Resistance Max: 0.25Ω; Impedance Max: 43Ω; Impedance Max Test Condition: 500MHz; Type: Wide Band; Category: Ferrites for PCB Assembly; Match Code: WE-CBF; ComponentLink1Description: Website Link; ComponentLink1URL: https://www.we-online.com/redexpert/article/74279274?ad; ComponentLink2Description: Datasheet Link; ComponentLink2URL: https://www.we-online.com/redexpert/spec/74279274?ad; Mount: Surface Mount; Min Operating Temperature: -55°C; Max Operating Temperature: 125°C; Packaging: Tape and Reel; Length: 1mm; Width: 0.5mm; Height: 0.5mm; Impedance @100MHz: 30Ω; Rated Current: 1.6A
footprint WE-CBF_0402_L1W0.5H0.5_HS_WB
simulation model 0402_74279274_30ohm
pins: 1, 2

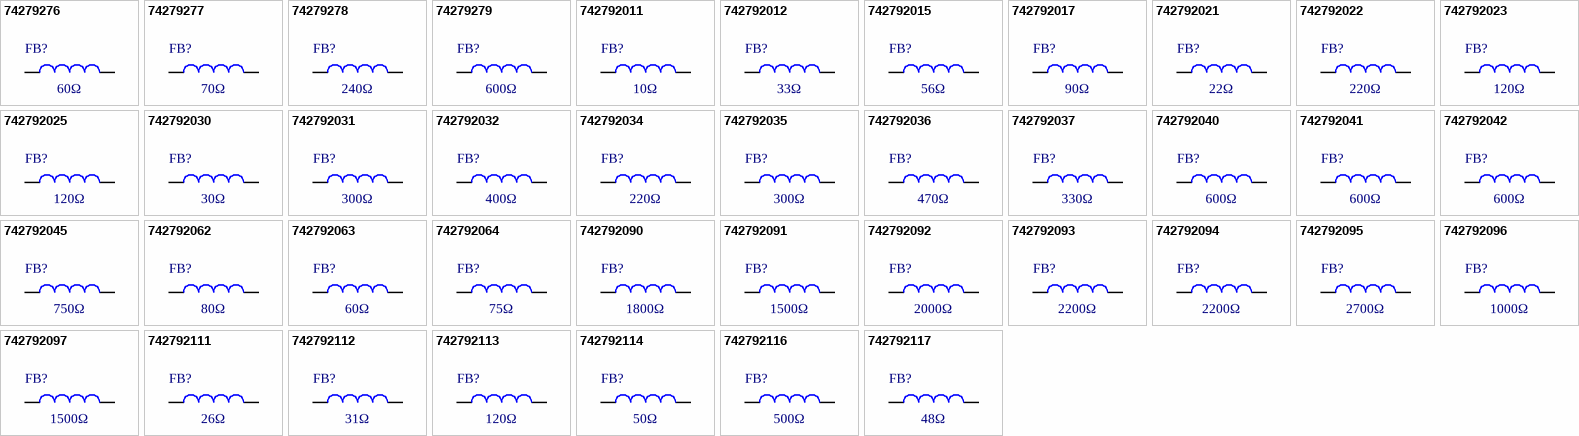
[diagram p1: symbols 74279276 to 742792117]

## 74279276
designator FB?, comment 60Ω
WE-CBF SMT EMI Suppression Ferrite Bead, size 0402, 60Ω, 1.25A; Manufacturer Part Number: 74279276; Manufacturer: Wurth Elektronik; Case/Size Code: 0402; DC Resistance Max: 0.35Ω; Impedance Max: 84Ω; Impedance Max Test Condition: 550MHz; Type: Wide Band; Category: Ferrites for PCB Assembly; Match Code: WE-CBF; ComponentLink1Description: Website Link; ComponentLink1URL: https://www.we-online.com/redexpert/article/74279276?ad; ComponentLink2Description: Datasheet Link; ComponentLink2URL: https://www.we-online.com/redexpert/spec/74279276?ad; Mount: Surface Mount; Min Operating Temperature: -55°C; Max Operating Temperature: 125°C; Packaging: Tape and Reel; Length: 1mm; Width: 0.5mm; Height: 0.5mm; Impedance @100MHz: 60Ω; Rated Current: 1.25A
footprint WE-CBF_0402_L1W0.5H0.5_HS_WB
simulation model 0402_74279276_60ohm
pins: 1, 2

## 74279277
designator FB?, comment 70Ω
WE-CBF SMT EMI Suppression Ferrite Bead, size 0402, 70Ω, 0.8A; Manufacturer Part Number: 74279277; Manufacturer: Wurth Elektronik; Case/Size Code: 0402; DC Resistance Max: 0.15Ω; Impedance Max: 91Ω; Impedance Max Test Condition: 500MHz; Type: Wide Band; Category: Ferrites for PCB Assembly; Match Code: WE-CBF; ComponentLink1Description: Website Link; ComponentLink1URL: https://www.we-online.com/redexpert/article/74279277?ad; ComponentLink2Description: Datasheet Link; ComponentLink2URL: https://www.we-online.com/redexpert/spec/74279277?ad; Mount: Surface Mount; Min Operating Temperature: -55°C; Max Operating Temperature: 125°C; Packaging: Tape and Reel; Length: 1mm; Width: 0.5mm; Height: 0.5mm; Impedance @100MHz: 70Ω; Rated Current: 0.8A
footprint WE-CBF_0402_L1W0.5H0.5_HS_WB
simulation model 0402_74279277_70ohm
pins: 1, 2

## 74279278
designator FB?, comment 240Ω
WE-CBF SMT EMI Suppression Ferrite Bead, size 0402, 240Ω, 0.71A; Manufacturer Part Number: 74279278; Manufacturer: Wurth Elektronik; Case/Size Code: 0402; DC Resistance Max: 0.7Ω; Impedance Max: 290Ω; Impedance Max Test Condition: 350MHz; Type: Wide Band; Category: Ferrites for PCB Assembly; Match Code: WE-CBF; ComponentLink1Description: Website Link; ComponentLink1URL: https://www.we-online.com/redexpert/article/74279278?ad; ComponentLink2Description: Datasheet Link; ComponentLink2URL: https://www.we-online.com/redexpert/spec/74279278?ad; Mount: Surface Mount; Min Operating Temperature: -55°C; Max Operating Temperature: 125°C; Packaging: Tape and Reel; Length: 1mm; Width: 0.5mm; Height: 0.5mm; Impedance @100MHz: 240Ω; Rated Current: 0.71A
footprint WE-CBF_0402_L1W0.5H0.5_HS_WB
simulation model 0402_74279278_240ohm
pins: 1, 2

## 74279279
designator FB?, comment 600Ω
WE-CBF SMT EMI Suppression Ferrite Bead, size 0402, 600Ω, 0.55A; Manufacturer Part Number: 74279279; Manufacturer: Wurth Elektronik; Case/Size Code: 0402; DC Resistance Max: 1Ω; Impedance Max: 660Ω; Impedance Max Test Condition: 180MHz; Type: Wide Band; Category: Ferrites for PCB Assembly; Match Code: WE-CBF; ComponentLink1Description: Website Link; ComponentLink1URL: https://www.we-online.com/redexpert/article/74279279?ad; ComponentLink2Description: Datasheet Link; ComponentLink2URL: https://www.we-online.com/redexpert/spec/74279279?ad; Mount: Surface Mount; Min Operating Temperature: -55°C; Max Operating Temperature: 125°C; Packaging: Tape and Reel; Length: 1mm; Width: 0.5mm; Height: 0.5mm; Impedance @100MHz: 600Ω; Rated Current: 0.55A
footprint WE-CBF_0402_L1W0.5H0.5_HS_WB
simulation model 0402_74279279_600ohm
pins: 1, 2

## 742792011
designator FB?, comment 10Ω
WE-CBF SMT EMI Suppression Ferrite Bead, size 0805, 10Ω, 3A; Manufacturer Part Number: 742792011; Manufacturer: Wurth Elektronik; Case/Size Code: 0805; DC Resistance Max: 0.025Ω; Impedance Max: 20Ω; Impedance Max Test Condition: 1000MHz; Type: High Current; Category: Ferrites for PCB Assembly; Match Code: WE-CBF; ComponentLink1Description: Website Link; ComponentLink1URL: https://www.we-online.com/redexpert/article/742792011?ad; ComponentLink2Description: Datasheet Link; ComponentLink2URL: https://www.we-online.com/redexpert/spec/742792011?ad; Mount: Surface Mount; Min Operating Temperature: -55°C; Max Operating Temperature: 125°C; Packaging: Tape and Reel; Length: 2mm; Width: 1.2mm; Height: 0.9mm; Impedance @100MHz: 10Ω; Rated Current: 3A
footprint WE-CBF_0805_L2W1.2H0.9_HC
simulation model 0805_742792011_10ohm
pins: 1, 2

## 742792012
designator FB?, comment 33Ω
WE-CBF SMT EMI Suppression Ferrite Bead, size 0805, 33Ω, 4A; Manufacturer Part Number: 742792012; Manufacturer: Wurth Elektronik; Case/Size Code: 0805; DC Resistance Max: 0.008Ω; Impedance Max: 58Ω; Impedance Max Test Condition: 800MHz; Type: High Current; Category: Ferrites for PCB Assembly; Match Code: WE-CBF; ComponentLink1Description: Website Link; ComponentLink1URL: https://www.we-online.com/redexpert/article/742792012?ad; ComponentLink2Description: Datasheet Link; ComponentLink2URL: https://www.we-online.com/redexpert/spec/742792012?ad; Mount: Surface Mount; Min Operating Temperature: -55°C; Max Operating Temperature: 125°C; Packaging: Tape and Reel; Length: 2mm; Width: 1.2mm; Height: 0.9mm; Impedance @100MHz: 33Ω; Rated Current: 4A
footprint WE-CBF_0805_L2W1.2H0.9_HC
simulation model 0805_742792012_33ohm
pins: 1, 2

## 742792015
designator FB?, comment 56Ω
WE-CBF SMT EMI Suppression Ferrite Bead, size 0805, 56Ω, 1.8A; Manufacturer Part Number: 742792015; Manufacturer: Wurth Elektronik; Case/Size Code: 0805; DC Resistance Max: 0.3Ω; Impedance Max: 230Ω; Impedance Max Test Condition: 800MHz; Type: Wide Band; Category: Ferrites for PCB Assembly; Match Code: WE-CBF; ComponentLink1Description: Website Link; ComponentLink1URL: https://www.we-online.com/redexpert/article/742792015?ad; ComponentLink2Description: Datasheet Link; ComponentLink2URL: https://www.we-online.com/redexpert/spec/742792015?ad; Mount: Surface Mount; Min Operating Temperature: -55°C; Max Operating Temperature: 125°C; Packaging: Tape and Reel; Length: 2mm; Width: 1.2mm; Height: 0.9mm; Impedance @100MHz: 56Ω; Rated Current: 1.8A
footprint WE-CBF_0805_L2W1.2H0.9_HS_WB
simulation model 0805_742792015_56ohm
pins: 1, 2

## 742792017
designator FB?, comment 90Ω
WE-CBF SMT EMI Suppression Ferrite Bead, size 0805, 90Ω, 3.5A; Manufacturer Part Number: 742792017; Manufacturer: Wurth Elektronik; Case/Size Code: 0805; DC Resistance Max: 0.02Ω; Impedance Max: 120Ω; Impedance Max Test Condition: 400MHz; Type: High Current; Category: Ferrites for PCB Assembly; Match Code: WE-CBF; ComponentLink1Description: Website Link; ComponentLink1URL: https://www.we-online.com/redexpert/article/742792017?ad; ComponentLink2Description: Datasheet Link; ComponentLink2URL: https://www.we-online.com/redexpert/spec/742792017?ad; Mount: Surface Mount; Min Operating Temperature: -55°C; Max Operating Temperature: 125°C; Packaging: Tape and Reel; Length: 2mm; Width: 1.2mm; Height: 0.9mm; Impedance @100MHz: 90Ω; Rated Current: 3.5A
footprint WE-CBF_0805_L2W1.2H0.9_HC
simulation model 0805_742792017_90ohm
pins: 1, 2

## 742792021
designator FB?, comment 22Ω
WE-CBF SMT EMI Suppression Ferrite Bead, size 0805, 22Ω, 6A; Manufacturer Part Number: 742792021; Manufacturer: Wurth Elektronik; Case/Size Code: 0805; DC Resistance Max: 0.008Ω; Impedance Max: 40Ω; Impedance Max Test Condition: 1000MHz; Type: High Current; Category: Ferrites for PCB Assembly; Match Code: WE-CBF; ComponentLink1Description: Website Link; ComponentLink1URL: https://www.we-online.com/redexpert/article/742792021?ad; ComponentLink2Description: Datasheet Link; ComponentLink2URL: https://www.we-online.com/redexpert/spec/742792021?ad; Mount: Surface Mount; Min Operating Temperature: -55°C; Max Operating Temperature: 125°C; Packaging: Tape and Reel; Length: 2mm; Width: 1.2mm; Height: 0.9mm; Impedance @100MHz: 22Ω; Rated Current: 6A
footprint WE-CBF_0805_L2W1.2H0.9_HC
simulation model 0805_742792021_22ohm
pins: 1, 2

## 742792022
designator FB?, comment 220Ω
WE-CBF SMT EMI Suppression Ferrite Bead, size 0805, 220Ω, 2A; Manufacturer Part Number: 742792022; Manufacturer: Wurth Elektronik; Case/Size Code: 0805; DC Resistance Max: 0.05Ω; Impedance Max: 330Ω; Impedance Max Test Condition: 300MHz; Type: High Current; Category: Ferrites for PCB Assembly; Match Code: WE-CBF; ComponentLink1Description: Website Link; ComponentLink1URL: https://www.we-online.com/redexpert/article/742792022?ad; ComponentLink2Description: Datasheet Link; ComponentLink2URL: https://www.we-online.com/redexpert/spec/742792022?ad; Mount: Surface Mount; Min Operating Temperature: -55°C; Max Operating Temperature: 125°C; Packaging: Tape and Reel; Length: 2mm; Width: 1.2mm; Height: 0.9mm; Impedance @100MHz: 220Ω; Rated Current: 2A
footprint WE-CBF_0805_L2W1.2H0.9_HC
simulation model 0805_742792022_220ohm
pins: 1, 2

## 742792023
designator FB?, comment 120Ω
WE-CBF SMT EMI Suppression Ferrite Bead, size 0805, 120Ω, 3A; Manufacturer Part Number: 742792023; Manufacturer: Wurth Elektronik; Case/Size Code: 0805; DC Resistance Max: 0.03Ω; Impedance Max: 180Ω; Impedance Max Test Condition: 250MHz; Type: High Current; Category: Ferrites for PCB Assembly; Match Code: WE-CBF; ComponentLink1Description: Website Link; ComponentLink1URL: https://www.we-online.com/redexpert/article/742792023?ad; ComponentLink2Description: Datasheet Link; ComponentLink2URL: https://www.we-online.com/redexpert/spec/742792023?ad; Mount: Surface Mount; Min Operating Temperature: -55°C; Max Operating Temperature: 125°C; Packaging: Tape and Reel; Length: 2mm; Width: 1.2mm; Height: 0.9mm; Impedance @100MHz: 120Ω; Rated Current: 3A
footprint WE-CBF_0805_L2W1.2H0.9_HC
simulation model 0805_742792023_120ohm
pins: 1, 2

## 742792025
designator FB?, comment 120Ω
WE-CBF SMT EMI Suppression Ferrite Bead, size 0805, 120Ω, 5A; Manufacturer Part Number: 742792025; Manufacturer: Wurth Elektronik; Case/Size Code: 0805; DC Resistance Max: 0.02Ω; Impedance Max: 160Ω; Impedance Max Test Condition: 400MHz; Type: High Current; Category: Ferrites for PCB Assembly; Match Code: WE-CBF; ComponentLink1Description: Website Link; ComponentLink1URL: https://www.we-online.com/redexpert/article/742792025?ad; ComponentLink2Description: Datasheet Link; ComponentLink2URL: https://www.we-online.com/redexpert/spec/742792025?ad; Mount: Surface Mount; Min Operating Temperature: -55°C; Max Operating Temperature: 125°C; Packaging: Tape and Reel; Length: 2mm; Width: 1.2mm; Height: 0.9mm; Impedance @100MHz: 120Ω; Rated Current: 5A
footprint WE-CBF_0805_L2W1.2H0.9_HC
simulation model 0805_742792025_120ohm
pins: 1, 2

## 742792030
designator FB?, comment 30Ω
WE-CBF SMT EMI Suppression Ferrite Bead, size 0805, 30Ω, 10A; Manufacturer Part Number: 742792030; Manufacturer: Wurth Elektronik; Case/Size Code: 0805; DC Resistance Max: 0.003Ω; Impedance Max: 39Ω; Impedance Max Test Condition: 920MHz; Type: High Current; Category: Ferrites for PCB Assembly; Match Code: WE-CBF; ComponentLink1Description: Website Link; ComponentLink1URL: https://www.we-online.com/redexpert/article/742792030?ad; ComponentLink2Description: Datasheet Link; ComponentLink2URL: https://www.we-online.com/redexpert/spec/742792030?ad; Mount: Surface Mount; Min Operating Temperature: -55°C; Max Operating Temperature: 125°C; Packaging: Tape and Reel; Length: 2mm; Width: 1.2mm; Height: 0.9mm; Impedance @100MHz: 30Ω; Rated Current: 10A
footprint WE-CBF_0805_L2W1.2H0.9_HC
simulation model 0805_742792030_30ohm
pins: 1, 2

## 742792031
designator FB?, comment 300Ω
WE-CBF SMT EMI Suppression Ferrite Bead, size 0805, 300Ω, 3A; Manufacturer Part Number: 742792031; Manufacturer: Wurth Elektronik; Case/Size Code: 0805; DC Resistance Max: 0.05Ω; Impedance Max: 350Ω; Impedance Max Test Condition: 200MHz; Type: High Current; Category: Ferrites for PCB Assembly; Match Code: WE-CBF; ComponentLink1Description: Website Link; ComponentLink1URL: https://www.we-online.com/redexpert/article/742792031?ad; ComponentLink2Description: Datasheet Link; ComponentLink2URL: https://www.we-online.com/redexpert/spec/742792031?ad; Mount: Surface Mount; Min Operating Temperature: -55°C; Max Operating Temperature: 125°C; Packaging: Tape and Reel; Length: 2mm; Width: 1.2mm; Height: 0.9mm; Impedance @100MHz: 300Ω; Rated Current: 3A
footprint WE-CBF_0805_L2W1.2H0.9_HC
simulation model 0805_742792031_300ohm
pins: 1, 2

## 742792032
designator FB?, comment 400Ω
WE-CBF SMT EMI Suppression Ferrite Bead, size 0805, 400Ω, 1.5A; Manufacturer Part Number: 742792032; Manufacturer: Wurth Elektronik; Case/Size Code: 0805; DC Resistance Max: 0.3Ω; Impedance Max: 500Ω; Impedance Max Test Condition: 200MHz; Type: Wide Band; Category: Ferrites for PCB Assembly; Match Code: WE-CBF; ComponentLink1Description: Website Link; ComponentLink1URL: https://www.we-online.com/redexpert/article/742792032?ad; ComponentLink2Description: Datasheet Link; ComponentLink2URL: https://www.we-online.com/redexpert/spec/742792032?ad; Mount: Surface Mount; Min Operating Temperature: -55°C; Max Operating Temperature: 125°C; Packaging: Tape and Reel; Length: 2mm; Width: 1.2mm; Height: 0.9mm; Impedance @100MHz: 400Ω; Rated Current: 1.5A
footprint WE-CBF_0805_L2W1.2H0.9_HS_WB
simulation model 0805_742792032_400ohm
pins: 1, 2

## 742792034
designator FB?, comment 220Ω
WE-CBF SMT EMI Suppression Ferrite Bead, size 0805, 220Ω, 2.8A; Manufacturer Part Number: 742792034; Manufacturer: Wurth Elektronik; Case/Size Code: 0805; DC Resistance Max: 0.3Ω; Impedance Max: 300Ω; Impedance Max Test Condition: 240MHz; Type: High Speed; Category: Ferrites for PCB Assembly; Match Code: WE-CBF; ComponentLink1Description: Website Link; ComponentLink1URL: https://www.we-online.com/redexpert/article/742792034?ad; ComponentLink2Description: Datasheet Link; ComponentLink2URL: https://www.we-online.com/redexpert/spec/742792034?ad; Mount: Surface Mount; Min Operating Temperature: -55°C; Max Operating Temperature: 125°C; Packaging: Tape and Reel; Length: 2mm; Width: 1.2mm; Height: 0.9mm; Impedance @100MHz: 220Ω; Rated Current: 2.8A
footprint WE-CBF_0805_L2W1.2H0.9_HS_WB
simulation model 0805_742792034_220ohm
pins: 1, 2